# EAGLE library part LMH6402 (library ICs)
LMH6502 Wideband, Low Power, Linear-in-dB Variable Gain Amplifier
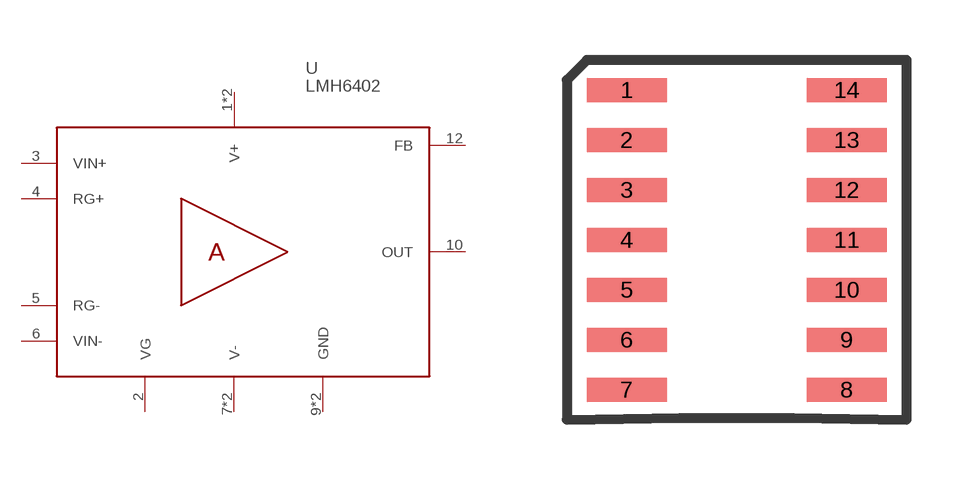
[diagram p86: symbol with the pads of SO14; footprint SO14]

Designator prefix U

## LMH6402MA (FARNELL: 8181047; PRICE_PER: 4.1082; VALUE: LMH6502)  [SO14]
1  V+
2  VG
3  VIN+
4  RG+
5  RG-
6  VIN-
7  V-
8  V-
9  GND
10  OUT
11  GND
12  FB
14  V+

## Footprint SO14 (pad centres in mm)
smd 2 x 0.6: 1 -2.75,3.75; 2 -2.75,2.5; 3 -2.75,1.25; 4 -2.75,0; 5 -2.75,-1.25; 6 -2.75,-2.5; 7 -2.75,-3.75; 8 2.75,-3.75; 9 2.75,-2.5; 10 2.75,-1.25; 11 2.75,0; 12 2.75,1.25; 13 2.75,2.5; 14 2.75,3.75